# EAGLE library part ASMT-MT00 (library Broadcom)
Moonstone Tri-Color Power LED Light Source
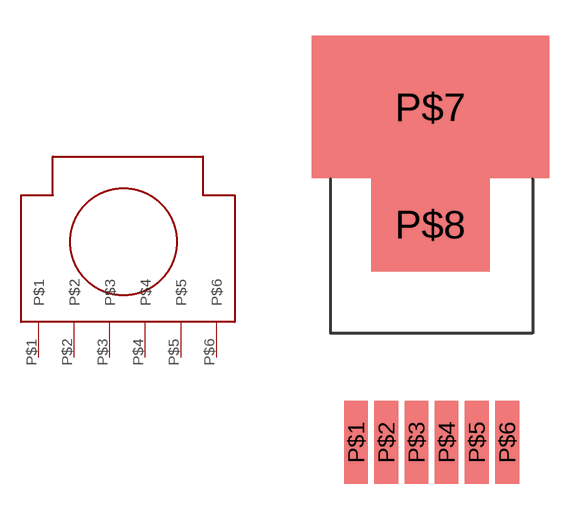
[diagram p0: symbol with the pads of TO-252-6; footprint TO-252-6]

Designator prefix -

## ASMT-MT00 (MF: Broadcom Limited; MPN: ASMT-MT00)  [TO-252-6]
P$1  P$1
P$2  P$2
P$3  P$3
P$4  P$4
P$5  P$5
P$6  P$6

## Footprint TO-252-6 (pad centres in mm)
smd 1 x 3.5: P$1 1.07,-13.1; P$2 2.34,-13.1; P$3 3.61,-13.1; P$4 4.88,-13.1; P$5 6.15,-13.1; P$6 7.43,-13.1
smd 10 x 6: P$7 4.2,1.04
smd 5 x 4: P$8 4.2,-3.9